# Altium footprint library Connectors - Rectangular.PcbLib: 28 footprints (part 1 of 2)
Each footprint in its own frame and in the unit in brackets; x right, y up, seen from the top. Pads: shape width x height; smd on the part's side, far side on the other; paste and mask are expansions set on the pad; w line width, h text height; cw(c..) or ccw(c..) is an arc to the next point about the centre after c.
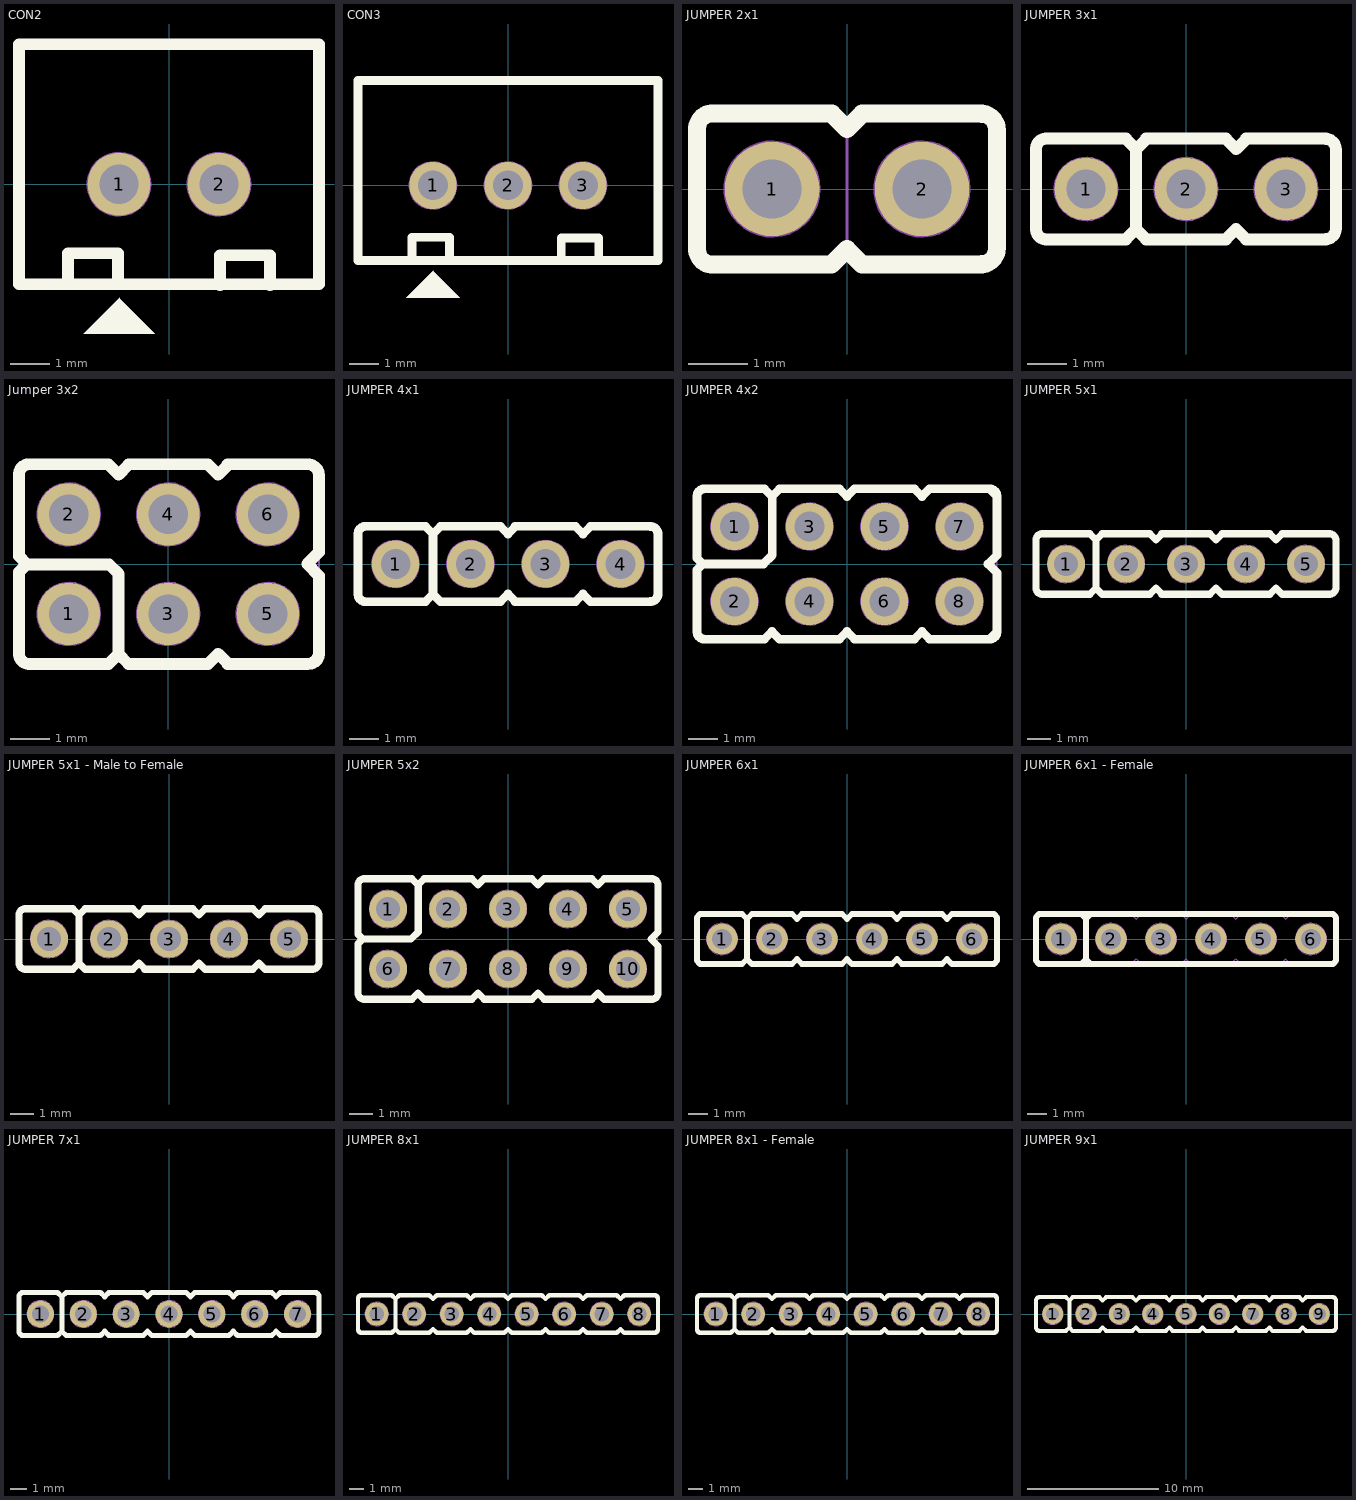
[diagram p0: the footprints below, top view; thin cyan lines are the x and y axes]

## CON2 [mm] "CON2"
height 5.08
pads (2):
  round 1.6 hole 1 mask+0.1: 1(-1.27,0) 2(1.27,0)
Top Overlay:
  region: -2.172,-3.797 -0.368,-3.797 -1.257,-2.908 -1.257,-2.883
  lines w0.3: -2.565,-2.515 -2.565,-1.753 -1.295,-1.753 -1.295,-2.515 ; 1.295,-2.565 1.295,-1.803 2.565,-1.803 2.565,-2.565 ; -3.81,-2.54 -3.81,3.556 3.81,3.556 3.81,-2.54 -3.81,-2.54
Top HCB:
  circle w0.05: c-1.27,0 r0.8
  circle w0.05: c1.27,0 r0.8
  region: -2.172,-3.797 -0.368,-3.797 -1.257,-2.908 -1.257,-2.883
  lines w0.05: -2.565,-2.515 -2.565,-1.753 -1.295,-1.753 -1.295,-2.515 ; 1.295,-2.565 1.295,-1.803 2.565,-1.803 2.565,-2.565 ; -3.81,-2.54 3.81,-2.54 3.81,3.556 -3.81,3.556 -3.81,-2.54
  text "2" at 1,-0.5 h1
  text "1" at -1.4,-0.5 h1
3D body "User Library-PW10_2.step": height 7, standoff -3.3, extent -3.75,-2.286 3.75,3.414

## CON3 [mm] "CON 3"
height 5.08
pads (3):
  round 1.6 hole 1 mask+0.1: 1(-2.54,0) 2(0,0) 3(2.54,0)
Top Overlay:
  region: -3.442,-3.797 -1.638,-3.797 -2.527,-2.908 -2.527,-2.883
  lines w0.3: -3.251,-2.515 -3.251,-1.753 -1.981,-1.753 -1.981,-2.515 ; 1.803,-2.54 1.803,-1.778 3.073,-1.778 3.073,-2.54 ; -5.08,-2.54 -5.08,3.556 5.08,3.556 5.08,0 5.08,-2.54 -5.08,-2.54
Top HCB:
  circle w0.05: c2.54,0 r0.8
  circle w0.05: c0,0 r0.8
  circle w0.05: c-2.54,0 r0.8
  region: -3.442,-3.797 -1.638,-3.797 -2.527,-2.908 -2.527,-2.883
  lines w0.05: -3.251,-2.515 -3.251,-1.753 -1.981,-1.753 -1.981,-2.515 ; 1.803,-2.54 1.803,-1.778 3.073,-1.778 3.073,-2.54 ; -5.08,-2.54 5.08,-2.54 5.08,0 5.08,3.556 -5.08,3.556 -5.08,-2.54
  text "3" at 2.2,-0.5 h1
  text "1" at -2.7,-0.5 h1
3D body "User Library-PW10_3.step": height 7, standoff -3.3, extent -5,-2.286 5,3.414

## JUMPER 2x1 [mm] "Connector DIP, 2Pin_2.54mm"
height 5
pads (2):
  round 1.6 hole 1 mask+0.1: 1(-1.27,0) 2(1.27,0)
Top Overlay:
  lines w0.3: -0.264,-1.28 -2.3,-1.28 cw(c-2.28,-1.02) -2.54,-1 -2.54,1 cw(c-2.28,1.02) -2.3,1.28 -0.254,1.28 ; -0.254,-1.27 0,-1.016 0,-1.026 0.254,-1.28 2.286,-1.28 2.286,-1.27 ; -0.254,1.27 0,1.016 0.254,1.27 ; 0.254,1.28 2.286,1.28 2.286,1.27 ; 2.26,-1.28 ccw(c2.26,-1) 2.54,-1 2.54,1 ccw(c2.26,1) 2.26,1.28
Top HCB:
  circle w0.05: c-1.27,0 r0.8
  circle w0.05: c1.27,0 r0.8
  lines w0.05: -0.264,-1.28 -2.3,-1.28 cw(c-2.28,-1.02) -2.54,-1 -2.54,1 cw(c-2.28,1.02) -2.3,1.28 -0.254,1.28 ; -0.254,-1.27 0,-1.016 0,-1.026 ; -0.254,1.27 0,1.016 ; 0.254,1.27 0,1.016 ; 0.254,1.28 2.286,1.28 2.286,1.27 ; 2.26,-1.28 ccw(c2.26,-1) 2.54,-1 2.54,1 ccw(c2.26,1) 2.26,1.28 ; 2.286,-1.27 2.286,-1.28 0.254,-1.28 0,-1.026 ; 0,-1.026 0,1.016
  text "2" at 1.014,-0.386 h1.2
  text "1" at -1.412,-0.386 h1.2
3D body "Header 1x2.STEP": height 10.1, standoff -1.5, extent -2.54,-1.27 2.54,1.27

## JUMPER 3x1 [mm]
pads (3):
  round 1.6 hole 1 mask+0.1: 1(-2.54,0) 2(0,0) 3(2.54,0)
Top Overlay:
  lines w0.3: -1.524,-1.28 -1.524,-1.27 ; -1.524,1.27 -1.27,1.016 ; -1.524,1.28 -3.57,1.28 ccw(c-3.55,1.02) -3.81,1 -3.81,-1 ccw(c-3.55,-1.02) -3.57,-1.28 -1.534,-1.28 -1.524,-1.27 ; -1.016,1.27 -1.27,1.016 ; -1.016,1.28 1.016,1.28 ; 1.016,-1.28 -1.016,-1.28 -1.27,-1.026 -1.27,-1.016 ; 1.016,-1.27 1.27,-1.016 1.27,-1.026 1.524,-1.28 3.556,-1.28 3.556,-1.27 ; 1.016,1.27 1.27,1.016 1.524,1.27 ; 1.524,1.28 3.556,1.28 3.556,1.27 ; 3.53,-1.28 ccw(c3.53,-1) 3.81,-1 3.81,1 ccw(c3.53,1) 3.53,1.28 ; -1.524,-1.27 -1.27,-1.016 ; -1.27,-1.016 -1.27,1.016
Top HCB:
  circle w0.05: c2.54,0 r0.8
  circle w0.05: c0,0 r0.8
  circle w0.05: c-2.54,0 r0.8
  lines w0.05: -1.524,-1.28 -1.524,-1.27 ; -1.524,1.27 -1.27,1.016 ; -1.524,1.28 -3.57,1.28 ccw(c-3.55,1.02) -3.81,1 -3.81,-1 ccw(c-3.55,-1.02) -3.57,-1.28 -1.534,-1.28 -1.524,-1.27 ; -1.016,1.27 -1.27,1.016 ; -1.016,1.28 1.016,1.28 ; 1.016,-1.28 -1.016,-1.28 -1.27,-1.026 ; 1.016,-1.27 1.27,-1.016 1.27,-1.026 1.524,-1.28 3.556,-1.28 3.556,-1.27 ; 1.016,1.27 1.27,1.016 1.524,1.27 ; 1.524,1.28 3.556,1.28 3.556,1.27 ; 3.53,-1.28 ccw(c3.53,-1) 3.81,-1 3.81,1 ccw(c3.53,1) 3.53,1.28 ; -1.524,-1.27 -1.27,-1.016 -1.27,-1.026 ; -1.27,-1.026 -1.27,1.016
  text "3" at 2.286,-0.254 h1.2
  text "1" at -2.794,-0.254 h1.2
3D body "Header 1x3.STEP": height 10.1, standoff -1.5, extent -3.81,-1.27 3.81,1.27

## Jumper 3x2 [mm] "Connector; Header; 3 Position"
pads (6):
  round 1.6 hole 1 mask+0.1: 1(-2.54,-1.27) 2(-2.54,1.27) 3(0,-1.27) 4(0,1.27) 5(2.54,-1.27) 6(2.54,1.27)
Top Overlay:
  lines w0.3: -3.61,-0.01 -1.51,-0.01 -1.27,-0.25 -1.27,-2.306 ; -1.524,-2.55 -1.524,-2.54 ; -1.524,2.54 -1.27,2.286 -1.016,2.54 ; -1.524,2.55 -3.57,2.55 ccw(c-3.55,2.29) -3.81,2.27 -3.81,0.2 -3.61,0 -3.81,-0.2 -3.81,-2.27 ccw(c-3.55,-2.29) -3.57,-2.55 -1.534,-2.55 -1.524,-2.54 ; -1.016,2.55 1.016,2.55 1.016,2.54 1.27,2.286 1.524,2.54 ; 1.51,-2.55 3.546,-2.55 ccw(c3.546,-2.251) 3.845,-2.251 3.845,-2.195 3.845,-0.295 3.545,0.005 3.845,0.305 3.845,2.275 ; 1.51,2.55 3.556,2.55 cw(c3.556,2.261) 3.845,2.261 ; 1.524,-2.54 1.27,-2.286 1.016,-2.54 1.016,-2.55 -1.016,-2.55 -1.27,-2.296 -1.27,-2.286 -1.524,-2.54 ; 3.605,-2.545 ccw(c3.585,-2.285) 3.845,-2.265
Top HCB:
  circle w0.05: c2.54,-1.27 r0.8
  circle w0.05: c2.54,1.27 r0.8
  circle w0.05: c-2.54,-1.27 r0.8
  circle w0.05: c0,-1.27 r0.8
  circle w0.05: c0,1.27 r0.8
  circle w0.05: c-2.54,1.27 r0.8
  lines w0.05: -3.81,0 -1.51,0 -1.27,-0.24 -1.27,-2.296 ; 1.87,2.555 1.539,2.555 ; 3.546,-2.55 3.556,-2.54 3.556,-2.55 ; 3.591,-2.545 1.559,-2.545 1.529,-2.545 1.524,-2.54 1.27,-2.286 1.016,-2.54 1.006,-2.55 -1.016,-2.55 -1.27,-2.296 ; 3.591,2.555 1.559,2.555 ; 3.605,-2.545 ccw(c3.585,-2.285) 3.845,-2.265 3.845,2.275 ccw(c3.585,2.295) 3.605,2.555 ; -1.27,-2.296 -1.27,-2.286 -1.524,-2.54 -1.534,-2.55 -3.57,-2.55 cw(c-3.55,-2.29) -3.81,-2.27 -3.81,2.27 cw(c-3.55,2.29) -3.57,2.55 -1.534,2.55 -1.27,2.286 -1.006,2.55 1.006,2.55 1.016,2.54 1.27,2.286 1.524,2.54 1.539,2.555 ; 1.539,2.555 1.559,2.555 ; 1.539,2.555 1.559,2.555
  text "4" at -0.266,0.886 h1.2
  text "6" at 2.286,0.89 h1.2
  text "3" at -0.22,-1.657 h1.2
  text "5" at 2.285,-1.642 h1.2
  text "2" at -2.796,0.884 h1.2
  text "1" at -2.682,-1.656 h1.2
3D body "User Library-2x3 TH Pitch 2_54mm.STEP": height 9.2, standoff -3.5, extent -3.85,-2.57 3.77,2.51

## JUMPER 4x1 [mm] "Connector DIP, 4Pin_2.54mm"
height 5
pads (4):
  round 1.6 hole 1 mask+0.1: 1(-3.81,0) 2(-1.27,0) 3(1.27,0) 4(3.81,0)
Top Overlay:
  lines w0.3: -2.794,-1.28 -2.794,-1.27 ; -2.794,1.27 -2.54,1.016 ; -2.794,1.28 -4.84,1.28 ccw(c-4.82,1.02) -5.08,1 -5.08,-1 ccw(c-4.82,-1.02) -4.84,-1.28 -2.804,-1.28 -2.794,-1.27 ; -2.286,1.27 -2.54,1.016 ; -2.286,1.28 -0.254,1.28 -0.254,1.27 0,1.016 0.254,1.27 ; 0.24,-1.28 2.276,-1.28 2.286,-1.27 ; 0.24,1.28 2.286,1.28 ; 0.254,-1.27 0,-1.016 -0.254,-1.27 -0.254,-1.28 -2.286,-1.28 -2.54,-1.026 ; 2.286,-1.28 2.286,-1.27 ; 2.286,1.27 2.54,1.016 2.794,1.27 ; 2.794,1.28 4.826,1.28 4.826,1.27 ; 4.8,-1.28 ccw(c4.8,-1) 5.08,-1 5.08,1 ccw(c4.8,1) 4.8,1.28 ; 4.826,-1.27 4.826,-1.28 2.794,-1.28 2.54,-1.026 2.54,-1.016 2.286,-1.27 ; -2.794,-1.27 -2.54,-1.016 -2.54,-1.026 ; -2.54,-1.026 -2.54,1.016
Top HCB:
  circle w0.05: c-1.27,0 r0.8
  circle w0.05: c3.81,0 r0.8
  circle w0.05: c1.27,0 r0.8
  circle w0.05: c-3.81,0 r0.8
  circle w0.05: c-3.81,0 r0.8
  lines w0.05: -2.794,-1.28 -2.794,-1.27 ; -2.794,1.27 -2.54,1.016 ; -2.794,1.28 -4.84,1.28 ccw(c-4.82,1.02) -5.08,1 -5.08,-1 ccw(c-4.82,-1.02) -4.84,-1.28 -2.804,-1.28 -2.794,-1.27 ; -2.286,1.27 -2.54,1.016 ; -2.286,1.28 -0.254,1.28 -0.254,1.27 0,1.016 0.254,1.27 ; 0.24,-1.28 2.276,-1.28 2.286,-1.27 ; 0.24,1.28 2.286,1.28 ; 0.254,-1.27 0,-1.016 -0.254,-1.27 -0.254,-1.28 -2.286,-1.28 -2.54,-1.026 -2.54,-1.016 ; 2.286,-1.28 2.286,-1.27 ; 2.286,1.27 2.54,1.016 2.794,1.27 ; 2.54,-1.026 2.794,-1.28 4.826,-1.28 4.826,-1.27 ; 2.54,-1.016 2.286,-1.27 ; 2.794,1.28 4.826,1.28 4.826,1.27 ; 4.8,-1.28 ccw(c4.8,-1) 5.08,-1 5.08,1 ccw(c4.8,1) 4.8,1.28 ; -2.794,-1.27 -2.54,-1.016 ; -2.54,-1.016 -2.54,1.016
  text "4" at 3.5,-0.4 h1.2
  text "1" at -4,-0.4 h1.2
3D body "Header 1x4.STEP": height 10.1, standoff -1.5, extent -5.08,-1.27 5.08,1.27

## JUMPER 4x2 [mm] "Connector DIP FeMale, 2x4Pin_2.54mm"
height 5
pads (8):
  round 1.6 hole 1 mask+0.1: 1(-3.81,1.27) 2(-3.81,-1.27) 3(-1.27,1.27) 4(-1.27,-1.27) 5(1.27,1.27) 6(1.27,-1.27) 7(3.81,1.27) 8(3.81,-1.27)
Top Overlay:
  lines w0.3: -2.794,-2.55 -2.794,-2.54 ; -2.794,2.54 -2.54,2.286 -2.286,2.54 ; -2.794,2.55 -4.84,2.55 ccw(c-4.82,2.29) -5.08,2.27 -5.08,0.2 -4.88,0 ; -2.53,2.276 -2.53,0.3 -2.83,0 -4.88,0 ; -2.286,2.55 -0.254,2.55 ; 4.84,-2.55 ccw(c4.82,-2.29) 5.08,-2.27 ; 4.84,2.55 cw(c4.82,2.29) 5.08,2.27 5.08,0.3 4.78,0 5.08,-0.3 5.08,-2.2 ; 5.08,-2.296 5.08,-2.286 4.826,-2.54 4.826,-2.55 2.794,-2.55 2.794,-2.54 2.54,-2.286 2.286,-2.54 2.286,-2.55 0.254,-2.55 ; 5.08,2.286 4.826,2.54 4.826,2.55 2.794,2.55 2.54,2.296 ; -4.88,0 -5.08,-0.2 -5.08,-2.27 ccw(c-4.82,-2.29) -4.84,-2.55 -2.804,-2.55 -2.794,-2.54 ; -2.794,-2.54 -2.54,-2.286 -2.54,-2.296 -2.286,-2.55 -0.254,-2.55 ; -0.254,-2.55 -0.254,-2.54 ; -0.254,-2.55 -0.254,-2.54 ; -0.254,-2.54 0,-2.286 0.254,-2.54 ; -0.254,2.54 -0.254,2.55 ; -0.254,2.54 0,2.286 ; -0.254,2.54 0,2.286 ; -0.254,2.54 -0.254,2.55 ; 0,2.286 0,2.296 0.254,2.55 2.286,2.55 2.286,2.54 2.54,2.286 ; 0.254,-2.55 0.254,-2.54 ; 0.254,-2.55 0.254,-2.54 ; 2.54,2.286 2.54,2.296 ; 2.54,2.286 2.54,2.296
Top HCB:
  circle w0.05: c-1.27,-1.27 r0.8
  circle w0.05: c-1.27,-1.27 r0.8
  circle w0.05: c-1.27,1.27 r0.8
  circle w0.05: c-1.27,1.27 r0.8
  circle w0.05: c3.81,-1.27 r0.8
  circle w0.05: c1.27,-1.27 r0.8
  circle w0.05: c-3.81,-1.27 r0.8
  circle w0.05: c3.81,1.27 r0.8
  circle w0.05: c1.27,1.27 r0.8
  circle w0.05: c-3.81,1.27 r0.8
  lines w0.05: -2.794,-2.55 -2.794,-2.54 ; -2.794,2.54 -2.54,2.286 ; -2.794,2.55 -4.84,2.55 ccw(c-4.82,2.29) -5.08,2.27 -5.08,-2.27 ccw(c-4.82,-2.29) -4.84,-2.55 -2.804,-2.55 -2.794,-2.54 ; 0.254,2.54 0,2.286 ; 0.254,2.55 2.286,2.55 2.286,2.54 2.54,2.286 2.794,2.54 ; 2.794,2.55 4.826,2.55 4.826,2.54 ; 4.826,-2.54 4.826,-2.55 2.794,-2.55 2.54,-2.296 2.54,-2.286 2.286,-2.54 2.286,-2.55 0.254,-2.55 0,-2.296 0,-2.286 ; 4.84,-2.55 ccw(c4.82,-2.29) 5.08,-2.27 5.08,2.27 ccw(c4.82,2.29) 4.84,2.55 ; 5.08,-2.296 5.08,-2.286 ; -2.794,-2.54 -2.54,-2.286 ; -2.54,-2.296 -2.54,-2.286 ; -2.54,-2.296 -2.286,-2.55 ; -2.54,-2.296 -2.286,-2.55 ; -2.54,-2.296 -2.54,-2.286 ; -2.54,2.286 -2.286,2.54 -2.54,2.286 ; -2.286,-2.55 -0.254,-2.55 ; -2.286,-2.55 -0.254,-2.55 ; -0.254,-2.55 -0.254,-2.54 ; -0.254,-2.55 -0.254,-2.54 ; -0.254,-2.54 0,-2.286 ; -0.254,-2.54 0,-2.286 ; -0.254,2.54 0,2.286 ; -0.254,2.54 0,2.286 ; -0.254,2.54 -0.254,2.55 ; -0.254,2.54 -0.254,2.55 ; -0.254,2.55 -2.286,2.55 -0.254,2.55
  text "7" at 3.561,0.89 h1.2
  text "8" at 3.556,-1.65 h1.2
  text "2" at -4.066,-1.656 h1.2
  text "1" at -3.98,0.87 h1.2

## JUMPER 5x1 [mm] "Connector DIP, 5Pin_2.54mm"
height 5
pads (5):
  round 1.6 hole 1 mask+0.1: 1(-5.08,0) 2(-2.54,0) 3(0,0) 4(2.54,0) 5(5.08,0)
Top Overlay:
  lines w0.3: -4.064,-1.28 -4.064,-1.27 ; -4.064,1.27 -3.81,1.016 ; -4.064,1.28 -6.11,1.28 ccw(c-6.09,1.02) -6.35,1 -6.35,-1 ccw(c-6.09,-1.02) -6.11,-1.28 -4.074,-1.28 -4.064,-1.27 ; -3.556,1.27 -3.81,1.016 ; -3.556,1.28 -1.524,1.28 -1.524,1.27 -1.27,1.016 -1.016,1.27 ; -1.03,-1.28 1.006,-1.28 1.016,-1.27 ; -1.03,1.28 1.016,1.28 ; -1.016,-1.27 -1.27,-1.016 -1.524,-1.27 -1.524,-1.28 -3.556,-1.28 -3.81,-1.026 -3.81,-1.016 ; 1.016,-1.28 1.016,-1.27 ; 1.016,1.27 1.27,1.016 1.524,1.27 ; 1.524,1.28 3.556,1.28 ; 3.556,-1.28 1.524,-1.28 1.27,-1.026 1.27,-1.016 1.016,-1.27 ; 3.556,-1.27 3.81,-1.016 3.81,-1.026 4.064,-1.28 6.096,-1.28 6.096,-1.27 ; 3.556,1.27 3.81,1.016 4.064,1.27 ; 4.064,1.28 6.096,1.28 6.096,1.27 ; 6.07,-1.28 ccw(c6.07,-1) 6.35,-1 6.35,1 ccw(c6.07,1) 6.07,1.28 ; -4.064,-1.27 -3.81,-1.016 ; -3.81,-1.016 -3.81,1.016
Top HCB:
  circle w0.05: c0,0 r0.8
  circle w0.05: c2.54,0 r0.8
  circle w0.05: c-2.54,0 r0.8
  circle w0.05: c5.08,0 r0.8
  circle w0.05: c-5.08,0 r0.8
  circle w0.05: c-5.08,0 r0.8
  lines w0.05: -4.064,-1.28 -4.064,-1.27 ; -4.064,1.27 -3.81,1.016 ; -4.064,1.28 -6.11,1.28 ccw(c-6.09,1.02) -6.35,1 -6.35,-1 ccw(c-6.09,-1.02) -6.11,-1.28 -4.074,-1.28 -4.064,-1.27 ; -3.556,1.27 -3.81,1.016 ; -3.556,1.28 -1.524,1.28 -1.524,1.27 -1.27,1.016 -1.016,1.27 ; -1.03,-1.28 1.006,-1.28 1.016,-1.27 ; -1.03,1.28 1.016,1.28 ; -1.016,-1.27 -1.27,-1.016 -1.524,-1.27 -1.524,-1.28 -3.556,-1.28 -3.81,-1.026 -3.81,-1.016 ; 1.016,-1.28 1.016,-1.27 ; 1.016,1.27 1.27,1.016 1.524,1.27 ; 1.524,1.28 3.556,1.28 ; 3.556,-1.28 1.524,-1.28 1.27,-1.026 1.27,-1.016 1.016,-1.27 ; 3.556,-1.27 3.81,-1.016 3.81,-1.026 4.064,-1.28 6.096,-1.28 6.096,-1.27 ; 3.556,1.27 3.81,1.016 4.064,1.27 ; 4.064,1.28 6.096,1.28 6.096,1.27 ; 6.07,-1.28 ccw(c6.07,-1) 6.35,-1 6.35,1 ccw(c6.07,1) 6.07,1.28 ; -4.064,-1.27 -3.81,-1.016 ; -3.81,-1.016 -3.81,1.016
  text "5" at 4.825,-0.372 h1.2
  text "1" at -5.3,-0.4 h1.2
3D body "Header 1x5.STEP": height 10.1, standoff -1.5, extent -6.35,-1.27 6.35,1.27

## JUMPER 5x1 - Male to Female [mm] "Connector DIP, Male to Female 5Pin_2.54mm"
height 5
pads (5):
  round 1.6 hole 1 mask+0.1: 1(-5.08,0) 2(-2.54,0) 3(0,0) 4(2.54,0) 5(5.08,0)
Top Overlay:
  lines w0.3: -4.064,-1.28 -4.064,-1.27 ; -4.064,1.27 -3.81,1.016 ; -4.064,1.28 -6.11,1.28 ccw(c-6.09,1.02) -6.35,1 -6.35,-1 ccw(c-6.09,-1.02) -6.11,-1.28 -4.074,-1.28 -4.064,-1.27 ; -3.556,1.27 -3.81,1.016 ; -3.556,1.28 -1.524,1.28 -1.524,1.27 -1.27,1.016 -1.016,1.27 ; -1.03,-1.28 1.006,-1.28 1.016,-1.27 ; -1.03,1.28 1.016,1.28 ; -1.016,-1.27 -1.27,-1.016 -1.524,-1.27 -1.524,-1.28 -3.556,-1.28 -3.81,-1.026 -3.81,-1.016 ; 1.016,-1.28 1.016,-1.27 ; 1.016,1.27 1.27,1.016 1.524,1.27 ; 1.524,1.28 3.556,1.28 ; 3.556,-1.28 1.524,-1.28 1.27,-1.026 1.27,-1.016 1.016,-1.27 ; 3.556,-1.27 3.81,-1.016 3.81,-1.026 4.064,-1.28 6.096,-1.28 6.096,-1.27 ; 3.556,1.27 3.81,1.016 4.064,1.27 ; 4.064,1.28 6.096,1.28 6.096,1.27 ; 6.07,-1.28 ccw(c6.07,-1) 6.35,-1 6.35,1 ccw(c6.07,1) 6.07,1.28 ; -4.064,-1.27 -3.81,-1.016 ; -3.81,-1.016 -3.81,1.016
Top HCB:
  circle w0.05: c-5.08,0 r0.8
  circle w0.05: c-5.08,0 r0.8
  circle w0.05: c5.08,0 r0.8
  circle w0.05: c-2.54,0 r0.8
  circle w0.05: c0,0 r0.8
  circle w0.05: c2.54,0 r0.8
  lines w0.05: -4.064,-1.28 -4.064,-1.27 ; -4.064,1.27 -3.81,1.016 ; -4.064,1.28 -6.11,1.28 ccw(c-6.09,1.02) -6.35,1 -6.35,-1 ccw(c-6.09,-1.02) -6.11,-1.28 -4.074,-1.28 -4.064,-1.27 ; -3.556,1.27 -3.81,1.016 ; -3.556,1.28 -1.524,1.28 -1.524,1.27 -1.27,1.016 -1.016,1.27 ; -1.03,-1.28 1.006,-1.28 1.016,-1.27 ; -1.03,1.28 1.016,1.28 ; -1.016,-1.27 -1.27,-1.016 -1.524,-1.27 -1.524,-1.28 -3.556,-1.28 -3.81,-1.026 -3.81,-1.016 ; 1.016,-1.28 1.016,-1.27 ; 1.016,1.27 1.27,1.016 1.524,1.27 ; 1.524,1.28 3.556,1.28 ; 3.556,-1.28 1.524,-1.28 1.27,-1.026 1.27,-1.016 1.016,-1.27 ; 3.556,-1.27 3.81,-1.016 3.81,-1.026 4.064,-1.28 6.096,-1.28 6.096,-1.27 ; 3.556,1.27 3.81,1.016 4.064,1.27 ; 4.064,1.28 6.096,1.28 6.096,1.27 ; 6.07,-1.28 ccw(c6.07,-1) 6.35,-1 6.35,1 ccw(c6.07,1) 6.07,1.28 ; -4.064,-1.27 -3.81,-1.016 ; -3.81,-1.016 -3.81,1.016
  text "1" at -5.3,-0.4 h1.2
  text "5" at 4.825,-0.372 h1.2
3D body "Header 1x5.STEP": height 1.5, standoff -10.1, extent -6.35,-1.27 6.35,1.27
3D body "female_header_a-bl254-eg-g05d.stp": height 8.5, standoff -3.2, extent -6.475,-1.25 6.475,1.25

## JUMPER 5x2 [mm] "Connector DIP FeMale, 2x5Pin_2.54mm"
height 5
pads (10):
  round 1.6 hole 1 mask+0.1: 1(-5.08,1.27) 2(-2.54,1.27) 3(0,1.27) 4(2.54,1.27) 5(5.08,1.27) 6(-5.08,-1.27) 7(-2.54,-1.27) 8(0,-1.27) 9(2.54,-1.27) 10(5.08,-1.27)
Top Overlay:
  lines w0.3: -4.064,-2.55 -4.064,-2.54 ; -4.064,2.54 -3.81,2.286 -3.556,2.54 ; -4.064,2.55 -6.11,2.55 ccw(c-6.09,2.29) -6.35,2.27 -6.35,0.2 -6.15,0 ; -3.8,2.276 -3.8,0.3 -4.1,0 -6.15,0 ; -3.556,2.55 -1.524,2.55 ; 4.064,2.54 3.81,2.286 3.556,2.54 3.556,2.55 1.524,2.55 1.27,2.296 ; 4.064,2.55 6.096,2.55 ; 6.096,-2.55 4.064,-2.55 3.81,-2.296 3.81,-2.286 3.556,-2.54 3.556,-2.55 1.524,-2.55 1.524,-2.54 1.27,-2.286 1.016,-2.54 1.016,-2.55 -1.016,-2.55 ; 6.11,-2.55 ccw(c6.09,-2.29) 6.35,-2.27 ; 6.11,2.55 cw(c6.09,2.29) 6.35,2.27 6.35,0.3 6.05,0 6.35,-0.3 6.35,-2.2 ; -6.15,0 -6.35,-0.2 -6.35,-2.27 ccw(c-6.09,-2.29) -6.11,-2.55 -4.074,-2.55 -4.064,-2.54 ; -4.064,-2.54 -3.81,-2.286 -3.81,-2.296 -3.556,-2.55 -1.524,-2.55 ; -1.524,-2.55 -1.524,-2.54 ; -1.524,-2.55 -1.524,-2.54 ; -1.524,-2.54 -1.27,-2.286 -1.016,-2.54 ; -1.524,2.54 -1.524,2.55 ; -1.524,2.54 -1.27,2.286 ; -1.524,2.54 -1.27,2.286 ; -1.524,2.54 -1.524,2.55 ; -1.27,2.286 -1.27,2.296 -1.016,2.55 1.016,2.55 1.016,2.54 1.27,2.286 ; -1.016,-2.55 -1.016,-2.54 ; -1.016,-2.55 -1.016,-2.54 ; 1.27,2.286 1.27,2.296 ; 1.27,2.286 1.27,2.296
Top HCB:
  circle w0.05: c-5.08,1.27 r0.8
  circle w0.05: c5.08,1.27 r0.8
  circle w0.05: c-5.08,-1.27 r0.8
  circle w0.05: c5.08,-1.27 r0.8
  circle w0.05: c-2.54,1.27 r0.8
  circle w0.05: c-2.54,1.27 r0.8
  circle w0.05: c2.54,1.27 r0.8
  circle w0.05: c0,1.27 r0.8
  circle w0.05: c-2.54,-1.27 r0.8
  circle w0.05: c-2.54,-1.27 r0.8
  circle w0.05: c2.54,-1.27 r0.8
  circle w0.05: c0,-1.27 r0.8
  lines w0.05: -4.064,-2.55 -4.064,-2.54 ; -4.064,2.54 -3.81,2.286 ; -4.064,2.55 -6.11,2.55 ccw(c-6.09,2.29) -6.35,2.27 -6.35,-2.27 ccw(c-6.09,-2.29) -6.11,-2.55 -4.074,-2.55 -4.064,-2.54 ; -1.016,2.54 -1.27,2.286 ; -1.016,2.55 1.016,2.55 1.016,2.54 1.27,2.286 1.524,2.54 ; 1.524,2.55 3.556,2.55 3.556,2.54 3.81,2.286 4.064,2.54 ; 4.064,2.55 6.096,2.55 ; 6.096,-2.55 4.064,-2.55 3.81,-2.296 3.81,-2.286 3.556,-2.54 3.556,-2.55 1.524,-2.55 1.27,-2.296 1.27,-2.286 1.016,-2.54 1.016,-2.55 -1.016,-2.55 -1.27,-2.296 -1.27,-2.286 ; 6.11,-2.55 ccw(c6.09,-2.29) 6.35,-2.27 6.35,2.27 ccw(c6.09,2.29) 6.11,2.55 ; -4.064,-2.54 -3.81,-2.286 ; -3.81,-2.296 -3.81,-2.286 ; -3.81,-2.296 -3.556,-2.55 ; -3.81,-2.296 -3.556,-2.55 ; -3.81,-2.296 -3.81,-2.286 ; -3.81,2.286 -3.556,2.54 -3.81,2.286 ; -3.556,-2.55 -1.524,-2.55 ; -3.556,-2.55 -1.524,-2.55 ; -1.524,-2.55 -1.524,-2.54 ; -1.524,-2.55 -1.524,-2.54 ; -1.524,-2.54 -1.27,-2.286 ; -1.524,-2.54 -1.27,-2.286 ; -1.524,2.54 -1.27,2.286 ; -1.524,2.54 -1.524,2.55 ; -1.524,2.54 -1.524,2.55 ; -1.524,2.54 -1.27,2.286 ; -1.524,2.55 -3.556,2.55 -1.524,2.55
  text "6" at -5.334,-1.65 h1.2
  text "1" at -5.25,0.87 h1.2
  text "10" at 4.567,-1.65 h1.2
  text "5" at 4.8,0.9 h1.2

## JUMPER 6x1 [mm] "Connector DIP Male, 6Pin_2.54mm"
height 5
pads (6):
  round 1.6 hole 1 mask+0.1: 1(-6.35,0) 2(-3.81,0) 3(-1.27,0) 4(1.27,0) 5(3.81,0) 6(6.35,0)
Top Overlay:
  lines w0.3: -5.334,-1.28 -5.334,-1.27 ; -5.334,1.27 -5.08,1.016 ; -5.334,1.28 -7.38,1.28 ccw(c-7.36,1.02) -7.62,1 -7.62,-1 ccw(c-7.36,-1.02) -7.38,-1.28 -5.344,-1.28 -5.334,-1.27 ; -4.826,1.27 -5.08,1.016 ; -4.826,1.28 -2.794,1.28 -2.794,1.27 -2.54,1.016 -2.286,1.27 ; -2.3,-1.28 -0.264,-1.28 -0.254,-1.27 ; -2.3,1.28 -0.254,1.28 ; -2.286,-1.27 -2.54,-1.016 -2.794,-1.27 -2.794,-1.28 -4.826,-1.28 -5.08,-1.026 ; -0.254,-1.28 -0.254,-1.27 ; -0.254,1.27 0,1.016 0.254,1.27 ; 0.254,1.28 2.286,1.28 2.286,1.27 2.54,1.016 2.794,1.27 ; 2.78,-1.28 4.816,-1.28 4.826,-1.27 ; 2.78,1.28 4.826,1.28 ; 2.794,-1.27 2.54,-1.016 2.286,-1.27 2.286,-1.28 0.254,-1.28 0,-1.026 0,-1.016 -0.254,-1.27 ; 4.826,-1.28 4.826,-1.27 ; 4.826,1.27 5.08,1.016 5.334,1.27 ; 5.334,1.28 7.366,1.28 ; 7.366,-1.28 5.334,-1.28 5.08,-1.026 5.08,-1.016 4.826,-1.27 ; 7.38,-1.28 ccw(c7.36,-1.02) 7.62,-1 7.62,1 ccw(c7.36,1.02) 7.38,1.28 ; -5.334,-1.27 -5.08,-1.016 -5.08,-1.026 ; -5.08,-1.026 -5.08,1.016
Top HCB:
  circle w0.05: c-3.81,0 r0.8
  circle w0.05: c-6.35,0 r0.8
  circle w0.05: c-6.35,0 r0.8
  circle w0.05: c3.81,0 r0.8
  circle w0.05: c1.27,0 r0.8
  circle w0.05: c-1.27,0 r0.8
  circle w0.05: c6.35,0 r0.8
  lines w0.05: -5.334,-1.28 -5.334,-1.27 ; -5.334,1.27 -5.08,1.016 ; -5.334,1.28 -7.38,1.28 ccw(c-7.36,1.02) -7.62,1 -7.62,-1 ccw(c-7.36,-1.02) -7.38,-1.28 -5.344,-1.28 -5.334,-1.27 ; -4.826,1.27 -5.08,1.016 ; -4.826,1.28 -2.794,1.28 -2.794,1.27 -2.54,1.016 -2.286,1.27 ; -2.3,-1.28 -0.264,-1.28 -0.254,-1.27 ; -2.3,1.28 -0.254,1.28 ; -2.286,-1.27 -2.54,-1.016 -2.794,-1.27 -2.794,-1.28 -4.826,-1.28 -5.08,-1.026 -5.08,-1.016 ; -0.254,-1.28 -0.254,-1.27 ; -0.254,1.27 0,1.016 0.254,1.27 ; 0.254,1.28 2.286,1.28 2.286,1.27 2.54,1.016 2.794,1.27 ; 2.78,-1.28 4.816,-1.28 4.826,-1.27 ; 2.78,1.28 4.826,1.28 ; 2.794,-1.27 2.54,-1.016 2.286,-1.27 2.286,-1.28 0.254,-1.28 0,-1.026 0,-1.016 -0.254,-1.27 ; 4.826,-1.28 4.826,-1.27 ; 4.826,1.27 5.08,1.016 5.334,1.27 ; 5.334,1.28 7.366,1.28 ; 7.366,-1.28 5.334,-1.28 5.08,-1.026 5.08,-1.016 4.826,-1.27 ; 7.38,-1.28 ccw(c7.36,-1.02) 7.62,-1 7.62,1 ccw(c7.36,1.02) 7.38,1.28 ; -5.334,-1.27 -5.08,-1.016 ; -5.08,-1.016 -5.08,1.016
  text "1" at -6.492,-0.386 h1.2
  text "6" at 6.096,-0.38 h1.2
3D body "Header 1x6.STEP": height 10.1, standoff -1.5, extent -7.62,-1.27 7.62,1.27

## JUMPER 6x1 - Female [mm] "Connector DIP Male, 6Pin_2.54mm"
height 5
pads (6):
  round 1.6 hole 1 mask+0.1: 1(-6.35,0) 2(-3.81,0) 3(-1.27,0) 4(1.27,0) 5(3.81,0) 6(6.35,0)
Top Overlay:
  lines w0.3: -6.362,-1.28 7.34,-1.28 ccw(c7.34,-1) 7.62,-1 ; -5.334,-1.28 -5.334,-1.27 ; -5.334,1.27 -5.08,1.016 ; -5.334,1.28 -7.38,1.28 ccw(c-7.36,1.02) -7.62,1 ; -4.826,1.27 -5.08,1.016 ; -4.826,1.28 -2.794,1.28 ; -2.794,-1.28 -4.826,-1.28 -5.08,-1.026 ; -2.3,-1.28 -0.264,-1.28 ; -2.3,1.28 -0.254,1.28 ; 0.254,-1.28 2.286,-1.28 ; 0.254,1.28 2.286,1.28 ; 2.78,-1.28 4.816,-1.28 ; 2.78,1.28 4.826,1.28 ; 5.334,-1.28 7.366,-1.28 ; 5.334,1.28 7.366,1.28 ; 7.38,-1.28 ccw(c7.36,-1.02) 7.62,-1 ; 7.38,1.28 cw(c7.36,1.02) 7.62,1 7.62,-1 ; -7.62,1 cw(c-7.34,1) -7.34,1.28 7.366,1.28 ; -7.62,1 -7.62,-1 ccw(c-7.36,-1.02) -7.38,-1.28 -5.344,-1.28 -5.334,-1.27 ; -5.334,-1.27 -5.08,-1.016 -5.08,-1.026 ; -5.08,-1.026 -5.08,1.016 ; 7.366,1.28 cw(c7.366,1.026) 7.62,1.026 7.62,-1
Top HCB:
  circle w0.05: c6.35,0 r0.8
  circle w0.05: c-1.27,0 r0.8
  circle w0.05: c3.81,0 r0.8
  circle w0.05: c1.27,0 r0.8
  circle w0.05: c-3.81,0 r0.8
  circle w0.05: c-6.35,0 r0.8
  circle w0.05: c-6.35,0 r0.8
  lines w0.05: -5.334,-1.28 -5.334,-1.27 ; -5.334,1.27 -5.08,1.016 ; -5.334,1.28 -7.38,1.28 ccw(c-7.36,1.02) -7.62,1 -7.62,-1 ccw(c-7.36,-1.02) -7.38,-1.28 -5.344,-1.28 -5.334,-1.27 ; -4.826,1.27 -5.08,1.016 ; -4.826,1.28 -2.794,1.28 -2.794,1.27 -2.54,1.016 -2.286,1.27 ; -2.3,-1.28 -0.264,-1.28 -0.254,-1.27 ; -2.3,1.28 -0.254,1.28 ; -2.286,-1.27 -2.54,-1.016 -2.794,-1.27 -2.794,-1.28 -4.826,-1.28 -5.08,-1.026 -5.08,-1.016 ; -0.254,-1.28 -0.254,-1.27 ; -0.254,1.27 0,1.016 0.254,1.27 ; 0.254,1.28 2.286,1.28 2.286,1.27 2.54,1.016 2.794,1.27 ; 2.78,-1.28 4.816,-1.28 4.826,-1.27 ; 2.78,1.28 4.826,1.28 ; 2.794,-1.27 2.54,-1.016 2.286,-1.27 2.286,-1.28 0.254,-1.28 0,-1.026 0,-1.016 -0.254,-1.27 ; 4.826,-1.28 4.826,-1.27 ; 4.826,1.27 5.08,1.016 5.334,1.27 ; 5.334,1.28 7.366,1.28 ; 7.366,-1.28 5.334,-1.28 5.08,-1.026 5.08,-1.016 4.826,-1.27 ; 7.38,-1.28 ccw(c7.36,-1.02) 7.62,-1 7.62,1 ccw(c7.36,1.02) 7.38,1.28 ; -5.334,-1.27 -5.08,-1.016 ; -5.08,-1.016 -5.08,1.016
  text "6" at 6.096,-0.38 h1.2
  text "1" at -6.492,-0.386 h1.2
3D body "User Library-Header_Fem_1X6.STEP": height 8.5, standoff -3.2, extent -7.87,-1.27 7.87,1.27

## JUMPER 7x1 [mm] "Connector DIP Male, 7Pin_2.54mm"
height 5
pads (7):
  round 1.6 hole 1 mask+0.1: 1(-7.62,0) 2(-5.08,0) 3(-2.54,0) 4(0,0) 5(2.54,0) 6(5.08,0) 7(7.62,0)
Top Overlay:
  lines w0.3: -6.604,-1.28 -6.604,-1.27 ; -6.604,1.27 -6.35,1.016 ; -6.604,1.28 -8.65,1.28 ccw(c-8.63,1.02) -8.89,1 -8.89,-1 ccw(c-8.63,-1.02) -8.65,-1.28 -6.614,-1.28 -6.604,-1.27 ; -6.096,1.27 -6.35,1.016 ; -6.096,1.28 -4.064,1.28 -4.064,1.27 -3.81,1.016 -3.556,1.27 ; -3.57,-1.28 -1.534,-1.28 -1.524,-1.27 ; -3.57,1.28 -1.524,1.28 ; -3.556,-1.27 -3.81,-1.016 -4.064,-1.27 -4.064,-1.28 -6.096,-1.28 -6.35,-1.026 ; -1.524,-1.28 -1.524,-1.27 ; -1.524,1.27 -1.27,1.016 -1.016,1.27 ; -1.016,1.28 1.016,1.28 1.016,1.27 1.27,1.016 1.524,1.27 ; 1.51,-1.28 3.546,-1.28 3.556,-1.27 ; 1.51,1.28 3.556,1.28 ; 1.524,-1.27 1.27,-1.016 1.016,-1.27 1.016,-1.28 -1.016,-1.28 -1.27,-1.026 -1.27,-1.016 -1.524,-1.27 ; 3.556,-1.28 3.556,-1.27 ; 3.556,1.27 3.81,1.016 4.064,1.27 ; 4.064,1.28 6.096,1.28 6.096,1.27 6.35,1.016 6.604,1.27 ; 6.59,-1.28 8.626,-1.28 ; 6.59,1.28 8.636,1.28 ; 6.604,-1.27 6.35,-1.016 6.096,-1.27 6.096,-1.28 4.064,-1.28 3.81,-1.026 3.81,-1.016 3.556,-1.27 ; 8.65,-1.28 ccw(c8.63,-1.02) 8.89,-1 8.89,1 ccw(c8.63,1.02) 8.65,1.28 ; -6.604,-1.27 -6.35,-1.016 -6.35,-1.026 ; -6.35,-1.026 -6.35,1.016
Top HCB:
  circle w0.05: c7.62,0 r0.8
  circle w0.05: c2.54,0 r0.8
  circle w0.05: c0,0 r0.8
  circle w0.05: c-2.54,0 r0.8
  circle w0.05: c-7.62,0 r0.8
  circle w0.05: c-7.62,0 r0.8
  circle w0.05: c5.08,0 r0.8
  circle w0.05: c-5.08,0 r0.8
  lines w0.05: -6.604,-1.28 -6.604,-1.27 ; -6.604,1.27 -6.35,1.016 ; -6.604,1.28 -8.65,1.28 ccw(c-8.63,1.02) -8.89,1 -8.89,-1 ccw(c-8.63,-1.02) -8.65,-1.28 -6.614,-1.28 -6.604,-1.27 ; -6.096,1.27 -6.35,1.016 ; -6.096,1.28 -4.064,1.28 -4.064,1.27 -3.81,1.016 -3.556,1.27 ; -3.57,-1.28 -1.534,-1.28 -1.524,-1.27 ; -3.57,1.28 -1.524,1.28 ; -3.556,-1.27 -3.81,-1.016 -4.064,-1.27 -4.064,-1.28 -6.096,-1.28 -6.35,-1.026 ; -1.524,-1.28 -1.524,-1.27 ; -1.524,1.27 -1.27,1.016 -1.016,1.27 ; -1.016,1.28 1.016,1.28 1.016,1.27 1.27,1.016 1.524,1.27 ; 1.51,-1.28 3.546,-1.28 3.556,-1.27 ; 1.51,1.28 3.556,1.28 ; 1.524,-1.27 1.27,-1.016 1.016,-1.27 1.016,-1.28 -1.016,-1.28 -1.27,-1.026 -1.27,-1.016 -1.524,-1.27 ; 3.556,-1.28 3.556,-1.27 ; 3.556,1.27 3.81,1.016 4.064,1.27 ; 4.064,1.28 6.096,1.28 6.096,1.27 6.35,1.016 6.604,1.27 ; 6.59,-1.28 8.626,-1.28 ; 6.59,1.28 8.636,1.28 ; 6.604,-1.27 6.35,-1.016 6.096,-1.27 6.096,-1.28 4.064,-1.28 3.81,-1.026 3.81,-1.016 3.556,-1.27 ; 8.65,-1.28 ccw(c8.63,-1.02) 8.89,-1 8.89,1 ccw(c8.63,1.02) 8.65,1.28 ; -6.604,-1.27 -6.35,-1.016 -6.35,-1.026 ; -6.35,-1.026 -6.35,1.016
  text "7" at 7.371,-0.38 h1.2
  text "1" at -7.8,-0.4 h1.2
3D body "Header 1x7.STEP": height 10.1, standoff -1.5, extent -8.89,-1.27 8.89,1.27

## JUMPER 8x1 [mm] "Connector DIP Male, 8Pin_2.54mm"
height 5
pads (8):
  round 1.6 hole 1 mask+0.1: 1(-8.89,0) 2(-6.35,0) 3(-3.81,0) 4(-1.27,0) 5(1.27,0) 6(3.81,0) 7(6.35,0) 8(8.89,0)
Top Overlay:
  lines w0.3: -7.874,-1.28 -7.874,-1.27 ; -7.874,1.27 -7.62,1.016 ; -7.874,1.28 -9.92,1.28 ccw(c-9.9,1.02) -10.16,1 -10.16,-1 ccw(c-9.9,-1.02) -9.92,-1.28 -7.884,-1.28 -7.874,-1.27 ; -7.366,1.27 -7.62,1.016 ; -7.366,1.28 -5.334,1.28 -5.334,1.27 -5.08,1.016 -4.826,1.27 ; -4.84,-1.28 -2.804,-1.28 -2.794,-1.27 ; -4.84,1.28 -2.794,1.28 ; -4.826,-1.27 -5.08,-1.016 -5.334,-1.27 -5.334,-1.28 -7.366,-1.28 -7.62,-1.026 ; -2.794,-1.28 -2.794,-1.27 ; -2.794,1.27 -2.54,1.016 -2.286,1.27 ; -2.286,1.28 -0.254,1.28 -0.254,1.27 0,1.016 0.254,1.27 ; 0.24,-1.28 2.276,-1.28 2.286,-1.27 ; 0.24,1.28 2.286,1.28 ; 0.254,-1.27 0,-1.016 -0.254,-1.27 -0.254,-1.28 -2.286,-1.28 -2.54,-1.026 -2.54,-1.016 -2.794,-1.27 ; 2.286,-1.28 2.286,-1.27 ; 2.286,1.27 2.54,1.016 2.794,1.27 ; 2.794,1.28 4.826,1.28 4.826,1.27 5.08,1.016 5.334,1.27 ; 5.32,-1.28 7.356,-1.28 7.366,-1.27 ; 5.32,1.28 7.366,1.28 ; 5.334,-1.27 5.08,-1.016 4.826,-1.27 4.826,-1.28 2.794,-1.28 2.54,-1.026 2.54,-1.016 2.286,-1.27 ; 7.366,-1.28 7.366,-1.27 ; 7.366,1.27 7.62,1.016 7.874,1.27 ; 7.874,1.28 9.906,1.28 ; 9.906,-1.28 7.874,-1.28 7.62,-1.026 7.62,-1.016 7.366,-1.27 ; 9.92,-1.28 ccw(c9.9,-1.02) 10.16,-1 10.16,1 ccw(c9.9,1.02) 9.92,1.28 ; -7.874,-1.27 -7.62,-1.016 -7.62,-1.026 ; -7.62,-1.026 -7.62,1.016
Top HCB:
  circle w0.05: c6.35,0 r0.8
  circle w0.05: c-1.27,0 r0.8
  circle w0.05: c-8.89,0 r0.8
  circle w0.05: c-8.89,0 r0.8
  circle w0.05: c8.89,0 r0.8
  circle w0.05: c3.81,0 r0.8
  circle w0.05: c1.27,0 r0.8
  circle w0.05: c-3.81,0 r0.8
  circle w0.05: c-6.35,0 r0.8
  lines w0.05: -7.874,-1.28 -7.874,-1.27 ; -7.874,1.27 -7.62,1.016 ; -7.874,1.28 -9.92,1.28 ccw(c-9.9,1.02) -10.16,1 -10.16,-1 ccw(c-9.9,-1.02) -9.92,-1.28 -7.884,-1.28 -7.874,-1.27 ; -7.366,1.27 -7.62,1.016 ; -7.366,1.28 -5.334,1.28 -5.334,1.27 -5.08,1.016 -4.826,1.27 ; -4.84,-1.28 -2.804,-1.28 -2.794,-1.27 ; -4.84,1.28 -2.794,1.28 ; -4.826,-1.27 -5.08,-1.016 -5.334,-1.27 -5.334,-1.28 -7.366,-1.28 -7.62,-1.026 -7.62,-1.016 ; -2.794,-1.28 -2.794,-1.27 ; -2.794,1.27 -2.54,1.016 -2.286,1.27 ; -2.286,1.28 -0.254,1.28 -0.254,1.27 0,1.016 0.254,1.27 ; 0.24,-1.28 2.276,-1.28 2.286,-1.27 ; 0.24,1.28 2.286,1.28 ; 0.254,-1.27 0,-1.016 -0.254,-1.27 -0.254,-1.28 -2.286,-1.28 -2.54,-1.026 -2.54,-1.016 -2.794,-1.27 ; 2.286,-1.28 2.286,-1.27 ; 2.286,1.27 2.54,1.016 2.794,1.27 ; 2.794,1.28 4.826,1.28 4.826,1.27 5.08,1.016 5.334,1.27 ; 5.32,-1.28 7.356,-1.28 7.366,-1.27 ; 5.32,1.28 7.366,1.28 ; 5.334,-1.27 5.08,-1.016 4.826,-1.27 4.826,-1.28 2.794,-1.28 2.54,-1.026 2.54,-1.016 2.286,-1.27 ; 7.366,-1.28 7.366,-1.27 ; 7.366,1.27 7.62,1.016 7.874,1.27 ; 7.874,1.28 9.906,1.28 ; 9.906,-1.28 7.874,-1.28 7.62,-1.026 7.62,-1.016 7.366,-1.27 ; 9.92,-1.28 ccw(c9.9,-1.02) 10.16,-1 10.16,1 ccw(c9.9,1.02) 9.92,1.28 ; -7.874,-1.27 -7.62,-1.016 ; -7.62,-1.016 -7.62,1.016
  text "8" at 8.636,-0.38 h1.2
  text "1" at -9.1,-0.4 h1.2
3D body "Header 1x8.STEP": height 10.1, standoff -1.5, extent -10.16,-1.27 10.16,1.27

## JUMPER 8x1 - Female [mm] "Connector DIP FeMale, 8Pin_2.54mm"
height 5
pads (8):
  round 1.6 hole 1 mask+0.1: 1(-8.89,0) 2(-6.35,0) 3(-3.81,0) 4(-1.27,0) 5(1.27,0) 6(3.81,0) 7(6.35,0) 8(8.89,0)
Top Overlay:
  lines w0.3: -7.874,-1.28 -7.874,-1.27 ; -7.874,1.27 -7.62,1.016 ; -7.874,1.28 -9.92,1.28 ccw(c-9.9,1.02) -10.16,1 -10.16,-1 ccw(c-9.9,-1.02) -9.92,-1.28 -7.884,-1.28 -7.874,-1.27 ; -7.366,1.27 -7.62,1.016 ; -7.366,1.28 -5.334,1.28 -5.334,1.27 -5.08,1.016 -4.826,1.27 ; -4.84,-1.28 -2.804,-1.28 -2.794,-1.27 ; -4.84,1.28 -2.794,1.28 ; -4.826,-1.27 -5.08,-1.016 -5.334,-1.27 -5.334,-1.28 -7.366,-1.28 -7.62,-1.026 ; -2.794,-1.28 -2.794,-1.27 ; -2.794,1.27 -2.54,1.016 -2.286,1.27 ; -2.286,1.28 -0.254,1.28 -0.254,1.27 0,1.016 0.254,1.27 ; 0.24,-1.28 2.276,-1.28 2.286,-1.27 ; 0.24,1.28 2.286,1.28 ; 0.254,-1.27 0,-1.016 -0.254,-1.27 -0.254,-1.28 -2.286,-1.28 -2.54,-1.026 -2.54,-1.016 -2.794,-1.27 ; 2.286,-1.28 2.286,-1.27 ; 2.286,1.27 2.54,1.016 2.794,1.27 ; 2.794,1.28 4.826,1.28 4.826,1.27 5.08,1.016 5.334,1.27 ; 5.32,-1.28 7.356,-1.28 7.366,-1.27 ; 5.32,1.28 7.366,1.28 ; 5.334,-1.27 5.08,-1.016 4.826,-1.27 4.826,-1.28 2.794,-1.28 2.54,-1.026 2.54,-1.016 2.286,-1.27 ; 7.366,-1.28 7.366,-1.27 ; 7.366,1.27 7.62,1.016 7.874,1.27 ; 7.874,1.28 9.906,1.28 ; 9.906,-1.28 7.874,-1.28 7.62,-1.026 7.62,-1.016 7.366,-1.27 ; 9.92,-1.28 ccw(c9.9,-1.02) 10.16,-1 10.16,1 ccw(c9.9,1.02) 9.92,1.28 ; -7.874,-1.27 -7.62,-1.016 -7.62,-1.026 ; -7.62,-1.026 -7.62,1.016
Top HCB:
  circle w0.05: c6.35,0 r0.8
  circle w0.05: c-8.89,0 r0.8
  circle w0.05: c-8.89,0 r0.8
  circle w0.05: c-1.27,0 r0.8
  circle w0.05: c8.89,0 r0.8
  circle w0.05: c1.27,0 r0.8
  circle w0.05: c3.81,0 r0.8
  circle w0.05: c-6.35,0 r0.8
  circle w0.05: c-3.81,0 r0.8
  lines w0.05: -7.874,-1.28 -7.874,-1.27 ; -7.874,1.27 -7.62,1.016 ; -7.874,1.28 -9.92,1.28 ccw(c-9.9,1.02) -10.16,1 -10.16,-1 ccw(c-9.9,-1.02) -9.92,-1.28 -7.884,-1.28 -7.874,-1.27 ; -7.366,1.27 -7.62,1.016 ; -7.366,1.28 -5.334,1.28 -5.334,1.27 -5.08,1.016 -4.826,1.27 ; -4.84,-1.28 -2.804,-1.28 -2.794,-1.27 ; -4.84,1.28 -2.794,1.28 ; -4.826,-1.27 -5.08,-1.016 -5.334,-1.27 -5.334,-1.28 -7.366,-1.28 -7.62,-1.026 -7.62,-1.016 ; -2.794,-1.28 -2.794,-1.27 ; -2.794,1.27 -2.54,1.016 -2.286,1.27 ; -2.286,1.28 -0.254,1.28 -0.254,1.27 0,1.016 0.254,1.27 ; 0.24,-1.28 2.276,-1.28 2.286,-1.27 ; 0.24,1.28 2.286,1.28 ; 0.254,-1.27 0,-1.016 -0.254,-1.27 -0.254,-1.28 -2.286,-1.28 -2.54,-1.026 -2.54,-1.016 -2.794,-1.27 ; 2.286,-1.28 2.286,-1.27 ; 2.286,1.27 2.54,1.016 2.794,1.27 ; 2.794,1.28 4.826,1.28 4.826,1.27 5.08,1.016 5.334,1.27 ; 5.32,-1.28 7.356,-1.28 7.366,-1.27 ; 5.32,1.28 7.366,1.28 ; 5.334,-1.27 5.08,-1.016 4.826,-1.27 4.826,-1.28 2.794,-1.28 2.54,-1.026 2.54,-1.016 2.286,-1.27 ; 7.366,-1.28 7.366,-1.27 ; 7.366,1.27 7.62,1.016 7.874,1.27 ; 7.874,1.28 9.906,1.28 ; 9.906,-1.28 7.874,-1.28 7.62,-1.026 7.62,-1.016 7.366,-1.27 ; 9.92,-1.28 ccw(c9.9,-1.02) 10.16,-1 10.16,1 ccw(c9.9,1.02) 9.92,1.28 ; -7.874,-1.27 -7.62,-1.016 ; -7.62,-1.016 -7.62,1.016
  text "8" at 8.636,-0.38 h1.2
  text "1" at -9.032,-0.386 h1.2
3D body "female_header_a-bl254-eg-g08d.stp": height 8.5, standoff -3.2, extent -10.285,-1.25 10.285,1.25

## JUMPER 9x1 [mm] "Connector DIP Male, 9Pin_2.54mm"
height 5
pads (9):
  round 1.6 hole 1 mask+0.1: 1(-10.16,0) 2(-7.62,0) 3(-5.08,0) 4(-2.54,0) 5(0,0) 6(2.54,0) 7(5.08,0) 8(7.62,0) 9(10.16,0)
Top Overlay:
  lines w0.3: -9.144,-1.28 -9.144,-1.27 ; -9.144,1.27 -8.89,1.016 ; -9.144,1.28 -11.19,1.28 ccw(c-11.17,1.02) -11.43,1 -11.43,-1 ccw(c-11.17,-1.02) -11.19,-1.28 -9.154,-1.28 -9.144,-1.27 ; -8.636,1.27 -8.89,1.016 ; -8.636,1.28 -6.604,1.28 -6.604,1.27 -6.35,1.016 -6.096,1.27 ; -6.11,-1.28 -4.074,-1.28 -4.064,-1.27 ; -6.11,1.28 -4.064,1.28 ; -6.096,-1.27 -6.35,-1.016 -6.604,-1.27 -6.604,-1.28 -8.636,-1.28 -8.89,-1.026 -8.89,-1.016 ; -4.064,-1.28 -4.064,-1.27 ; -4.064,1.27 -3.81,1.016 -3.556,1.27 ; -3.556,1.28 -1.524,1.28 -1.524,1.27 -1.27,1.016 -1.016,1.27 ; -1.03,-1.28 1.006,-1.28 1.016,-1.27 ; -1.03,1.28 1.016,1.28 ; -1.016,-1.27 -1.27,-1.016 -1.524,-1.27 -1.524,-1.28 -3.556,-1.28 -3.81,-1.026 -3.81,-1.016 -4.064,-1.27 ; 1.016,-1.28 1.016,-1.27 ; 1.016,1.27 1.27,1.016 1.524,1.27 ; 1.524,1.28 3.556,1.28 3.556,1.27 3.81,1.016 4.064,1.27 ; 4.05,-1.28 6.086,-1.28 6.096,-1.27 ; 4.05,1.28 6.096,1.28 ; 4.064,-1.27 3.81,-1.016 3.556,-1.27 3.556,-1.28 1.524,-1.28 1.27,-1.026 1.27,-1.016 1.016,-1.27 ; 6.096,-1.28 6.096,-1.27 ; 6.096,1.27 6.35,1.016 6.604,1.27 ; 6.604,1.28 8.636,1.28 8.636,1.27 8.89,1.016 9.144,1.27 ; 9.13,-1.28 11.166,-1.28 ; 9.13,1.28 11.176,1.28 ; 9.144,-1.27 8.89,-1.016 8.636,-1.27 8.636,-1.28 6.604,-1.28 6.35,-1.026 6.35,-1.016 6.096,-1.27 ; 11.19,-1.28 ccw(c11.17,-1.02) 11.43,-1 11.43,1 ccw(c11.17,1.02) 11.19,1.28 ; -9.144,-1.27 -8.89,-1.016 ; -8.89,-1.016 -8.89,1.016
Top HCB:
  circle w0.05: c7.62,0 r0.8
  circle w0.05: c10.16,0 r0.8
  circle w0.05: c2.54,0 r0.8
  circle w0.05: c0,0 r0.8
  circle w0.05: c-2.54,0 r0.8
  circle w0.05: c-7.62,0 r0.8
  circle w0.05: c-10.16,0 r0.8
  circle w0.05: c-10.16,0 r0.8
  circle w0.05: c5.08,0 r0.8
  circle w0.05: c-5.08,0 r0.8
  lines w0.05: -9.144,-1.28 -9.144,-1.27 ; -9.144,1.27 -8.89,1.016 ; -9.144,1.28 -11.19,1.28 ccw(c-11.17,1.02) -11.43,1 -11.43,-1 ccw(c-11.17,-1.02) -11.19,-1.28 -9.154,-1.28 -9.144,-1.27 ; -8.636,1.27 -8.89,1.016 ; -8.636,1.28 -6.604,1.28 -6.604,1.27 -6.35,1.016 -6.096,1.27 ; -6.11,-1.28 -4.074,-1.28 -4.064,-1.27 ; -6.11,1.28 -4.064,1.28 ; -6.096,-1.27 -6.35,-1.016 -6.604,-1.27 -6.604,-1.28 -8.636,-1.28 -8.89,-1.026 -8.89,-1.016 ; -4.064,-1.28 -4.064,-1.27 ; -4.064,1.27 -3.81,1.016 -3.556,1.27 ; -3.556,1.28 -1.524,1.28 -1.524,1.27 -1.27,1.016 -1.016,1.27 ; -1.03,-1.28 1.006,-1.28 1.016,-1.27 ; -1.03,1.28 1.016,1.28 ; -1.016,-1.27 -1.27,-1.016 -1.524,-1.27 -1.524,-1.28 -3.556,-1.28 -3.81,-1.026 -3.81,-1.016 -4.064,-1.27 ; 1.016,-1.28 1.016,-1.27 ; 1.016,1.27 1.27,1.016 1.524,1.27 ; 1.524,1.28 3.556,1.28 3.556,1.27 3.81,1.016 4.064,1.27 ; 4.05,-1.28 6.086,-1.28 6.096,-1.27 ; 4.05,1.28 6.096,1.28 ; 4.064,-1.27 3.81,-1.016 3.556,-1.27 3.556,-1.28 1.524,-1.28 1.27,-1.026 1.27,-1.016 1.016,-1.27 ; 6.096,-1.28 6.096,-1.27 ; 6.096,1.27 6.35,1.016 6.604,1.27 ; 6.604,1.28 8.636,1.28 8.636,1.27 8.89,1.016 9.144,1.27 ; 9.13,-1.28 11.166,-1.28 ; 9.13,1.28 11.176,1.28 ; 9.144,-1.27 8.89,-1.016 8.636,-1.27 8.636,-1.28 6.604,-1.28 6.35,-1.026 6.35,-1.016 6.096,-1.27 ; 11.19,-1.28 ccw(c11.17,-1.02) 11.43,-1 11.43,1 ccw(c11.17,1.02) 11.19,1.28 ; -9.144,-1.27 -8.89,-1.016 ; -8.89,-1.016 -8.89,1.016
  text "9" at 9.9,-0.4 h1.2
  text "1" at -10.3,-0.4 h1.2
3D body "Header 1x9.STEP": height 10.1, standoff -1.5, extent -11.43,-1.27 11.43,1.27